# EAGLE library part LIS3DSH (library ICs)
MEMS digital output motion sensor: ultra-low-power high-performance three-axis "nano" accelerometer
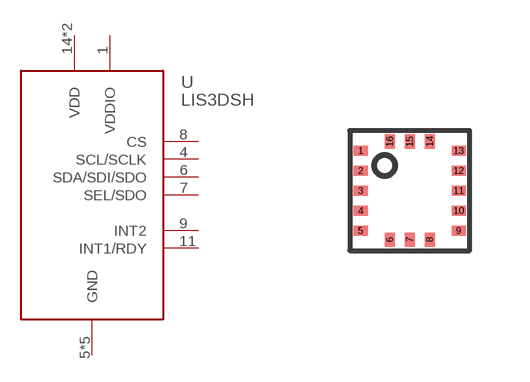
[diagram p233: symbol with the pads of LGA16; footprint LGA16]

Designator prefix U

## LIS3DSH (DIGIKEY: 497-13244-1-ND; HEIGHT: 1; PRICE_PER: 1.65; VALUE: LIS3DSH)  [LGA16]
1  VDDIO
4  SCL/SCLK
5  GND
6  SDA/SDI/SDO
7  SEL/SDO
8  CS
9  INT2
10  GND
11  INT1/RDY
12  GND
13  GND
14  VDD
15  VDD
16  GND

## Footprint LGA16 (pad centres in mm)
smd 0.35 x 0.25: 1 -1.225,1; 2 -1.225,0.5; 3 -1.225,0; 4 -1.225,-0.5; 5 -1.225,-1; 9 1.225,-1; 10 1.225,-0.5; 11 1.225,0; 12 1.225,0.5; 13 1.225,1
smd 0.25 x 0.35: 6 -0.5,-1.225; 7 0,-1.225; 8 0.5,-1.225; 14 0.5,1.225; 15 0,1.225; 16 -0.5,1.225